# Altium footprint library analog-devices.PCBLIB: 79 footprints (part 1 of 6)
Each footprint in its own frame and in the unit in brackets; x right, y up, seen from the top. Pads: shape width x height; smd on the part's side, far side on the other; paste and mask are expansions set on the pad; w line width, h text height; cw(c..) or ccw(c..) is an arc to the next point about the centre after c.
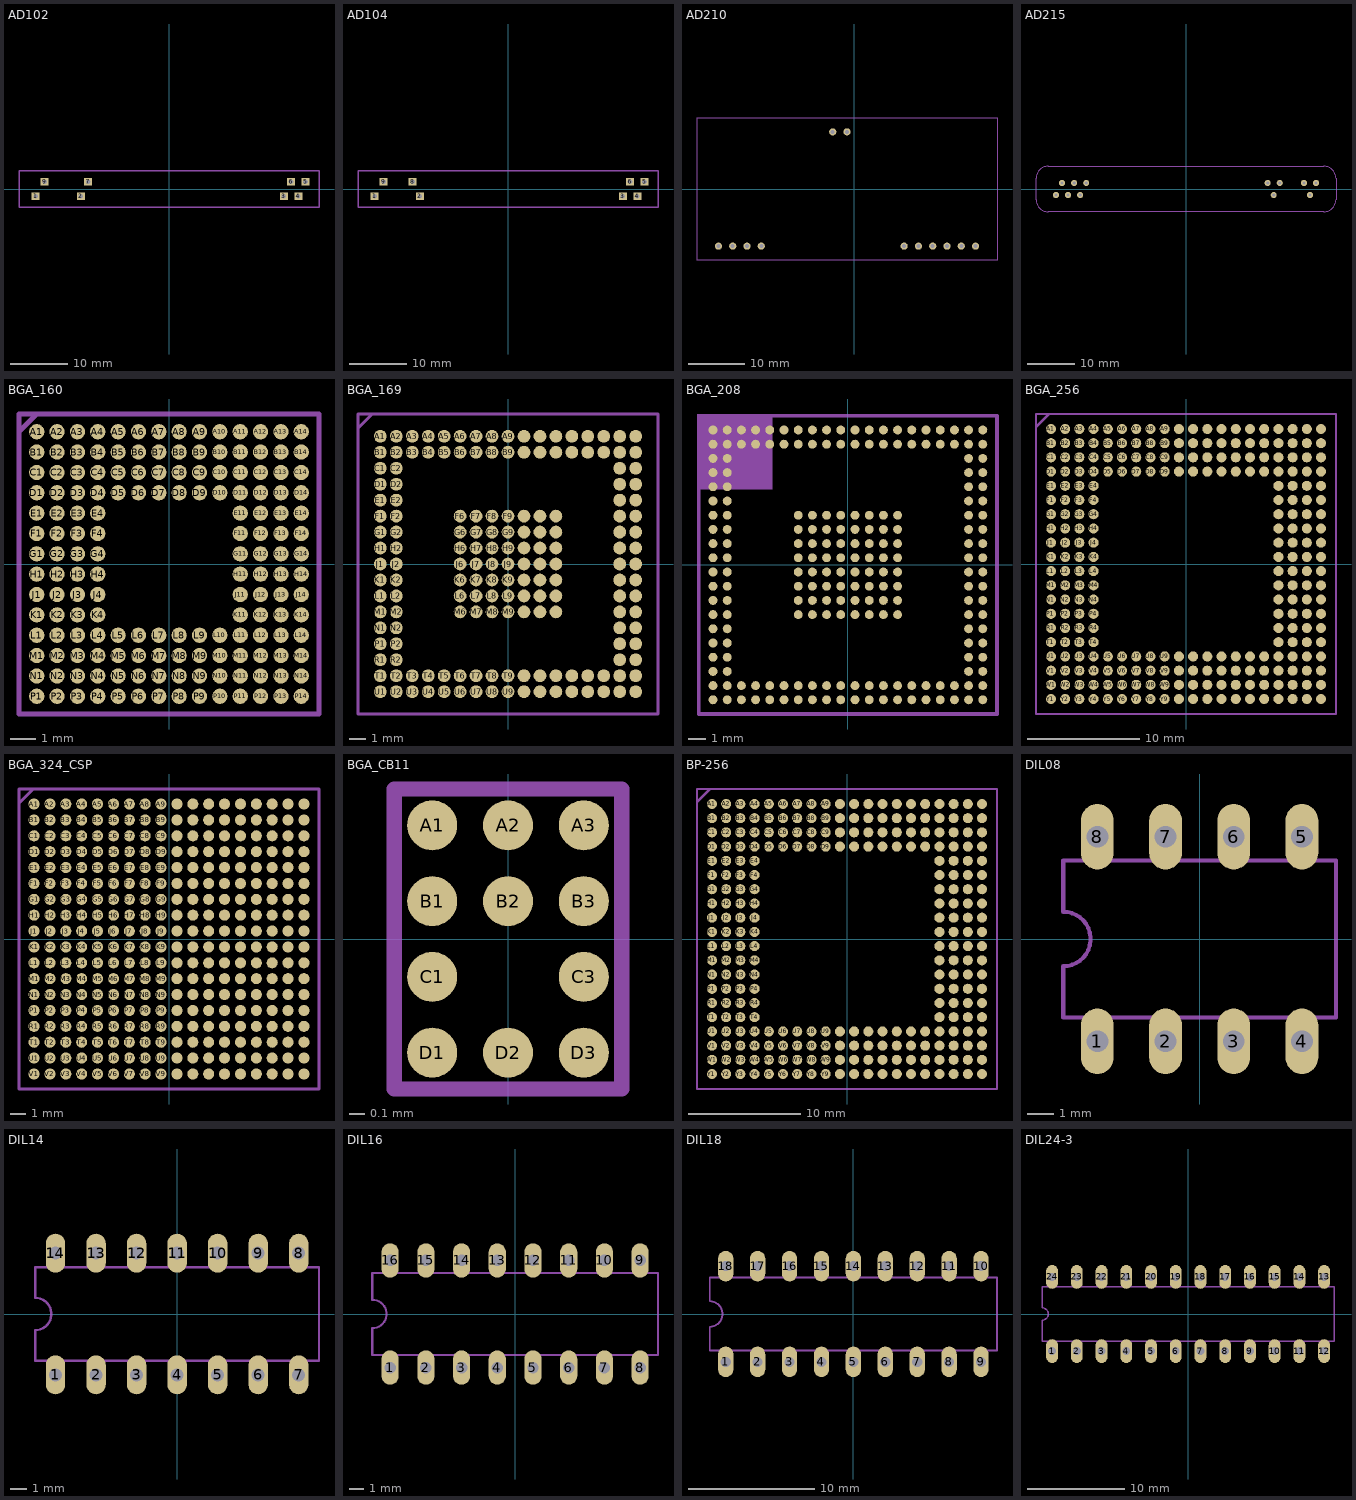
[diagram p0: the footprints below, top view; thin cyan lines are the x and y axes]

## AD102 [mil]
pads (8):
  rect 55x55 hole 32: 1(-920,-50) 2(-608,-50) 3(792,-50) 4(892,-50) 5(942,50) 6(842,50) 7(-558,50) 9(-858,50)
Mechanical 2:
  lines w10: -1035,-125 1035,-125 1035,125 -1035,125 -1035,-125

## AD104 [mil]
pads (8):
  rect 55x55 hole 32: 1(-920,-50) 2(-608,-50) 3(792,-50) 4(892,-50) 5(942,50) 6(842,50) 8(-658,50) 9(-858,50)
Mechanical 2:
  lines w10: -1035,-125 1035,-125 1035,125 -1035,125 -1035,-125

## AD210 [mm]
pads (12):
  round 1.27 hole 0.7: 1(-24.13,-10.16) 2(-21.59,-10.16) 3(-19.05,-10.16) 4(-16.51,-10.16) 14(8.89,-10.16) 15(11.43,-10.16) 16(13.97,-10.16) 17(16.51,-10.16) 18(19.05,-10.16) 19(21.59,-10.16) 29(-1.27,10.16) 30(-3.81,10.16)
Mechanical 2:
  lines w0.203: -27.94,-12.7 -27.94,12.7 25.4,12.7 25.4,-12.7 -27.94,-12.7

## AD215 [mm]
pads (12):
  round 1.27 hole 0.7: 1(-27.305,-1.27) 2(-26.035,1.27) 3(-24.765,-1.27) 4(-23.495,1.27) 5(-22.225,-1.27) 6(-20.955,1.27) 36(17.145,1.27) 37(18.415,-1.27) 38(19.685,1.27) 42(24.765,1.27) 43(26.035,-1.27) 44(27.305,1.27)
Mechanical 2:
  lines w0.203: -31.496,-2.222 ccw(c-28.956,-2.222) -28.956,-4.763 28.956,-4.763 ccw(c28.956,-2.222) 31.496,-2.223 31.496,2.222 ccw(c28.956,2.222) 28.956,4.763 -28.956,4.763 ccw(c-28.956,2.222) -31.496,2.223 -31.496,-2.222

## BGA_160 [mm]
pads (160):
  rrect100% 0.6x0.6 smd paste-0.3 mask-0.3: A1(-5.2,5.2) A2(-4.4,5.2) A3(-3.6,5.2) A4(-2.8,5.2) A5(-2,5.2) A6(-1.2,5.2) A7(-0.4,5.2) A8(0.4,5.2) A9(1.2,5.2) A10(2,5.2) A11(2.8,5.2) A12(3.6,5.2) A13(4.4,5.2) A14(5.2,5.2) B1(-5.2,4.4) B2(-4.4,4.4) B3(-3.6,4.4) B4(-2.8,4.4) B5(-2,4.4) B6(-1.2,4.4) B7(-0.4,4.4) B8(0.4,4.4) B9(1.2,4.4) B10(2,4.4) B11(2.8,4.4) B12(3.6,4.4) B13(4.4,4.4) B14(5.2,4.4) C1(-5.2,3.6) C2(-4.4,3.6) C3(-3.6,3.6) C4(-2.8,3.6) C5(-2,3.6) C6(-1.2,3.6) C7(-0.4,3.6) C8(0.4,3.6) C9(1.2,3.6) C10(2,3.6) C11(2.8,3.6) C12(3.6,3.6) C13(4.4,3.6) C14(5.2,3.6) D1(-5.2,2.8) D2(-4.4,2.8) D3(-3.6,2.8) D4(-2.8,2.8) D5(-2,2.8) D6(-1.2,2.8) D7(-0.4,2.8) D8(0.4,2.8) D9(1.2,2.8) D10(2,2.8) D11(2.8,2.8) D12(3.6,2.8) D13(4.4,2.8) D14(5.2,2.8) E1(-5.2,2) E2(-4.4,2) E3(-3.6,2) E4(-2.8,2) E11(2.8,2) E12(3.6,2) E13(4.4,2) E14(5.2,2) F1(-5.2,1.2) F2(-4.4,1.2) F3(-3.6,1.2) F4(-2.8,1.2) F11(2.8,1.2) F12(3.6,1.2) F13(4.4,1.2) F14(5.2,1.2) G1(-5.2,0.4) G2(-4.4,0.4) G3(-3.6,0.4) G4(-2.8,0.4) G11(2.8,0.4) G12(3.6,0.4) G13(4.4,0.4) G14(5.2,0.4) H1(-5.2,-0.4) H2(-4.4,-0.4) H3(-3.6,-0.4) H4(-2.8,-0.4) H11(2.8,-0.4) H12(3.6,-0.4) H13(4.4,-0.4) H14(5.2,-0.4) J1(-5.2,-1.2) J2(-4.4,-1.2) J3(-3.6,-1.2) J4(-2.8,-1.2) J11(2.8,-1.2) J12(3.6,-1.2) J13(4.4,-1.2) J14(5.2,-1.2) K1(-5.2,-2) K2(-4.4,-2) K3(-3.6,-2) K4(-2.8,-2) K11(2.8,-2) K12(3.6,-2) K13(4.4,-2) K14(5.2,-2) L1(-5.2,-2.8) L2(-4.4,-2.8) L3(-3.6,-2.8) L4(-2.8,-2.8) L5(-2,-2.8) L6(-1.2,-2.8) L7(-0.4,-2.8) L8(0.4,-2.8) L9(1.2,-2.8) L10(2,-2.8) L11(2.8,-2.8) L12(3.6,-2.8) L13(4.4,-2.8) L14(5.2,-2.8) M1(-5.2,-3.6) M2(-4.4,-3.6) M3(-3.6,-3.6) M4(-2.8,-3.6) M5(-2,-3.6) M6(-1.2,-3.6) M7(-0.4,-3.6) M8(0.4,-3.6) M9(1.2,-3.6) M10(2,-3.6) M11(2.8,-3.6) M12(3.6,-3.6) M13(4.4,-3.6) M14(5.2,-3.6) N1(-5.2,-4.4) N2(-4.4,-4.4) N3(-3.6,-4.4) N4(-2.8,-4.4) N5(-2,-4.4) N6(-1.2,-4.4) N7(-0.4,-4.4) N8(0.4,-4.4) N9(1.2,-4.4) N10(2,-4.4) N11(2.8,-4.4) N12(3.6,-4.4) N13(4.4,-4.4) N14(5.2,-4.4) P1(-5.2,-5.2) P2(-4.4,-5.2) P3(-3.6,-5.2) P4(-2.8,-5.2) P5(-2,-5.2) P6(-1.2,-5.2) P7(-0.4,-5.2) P8(0.4,-5.2) P9(1.2,-5.2) P10(2,-5.2) P11(2.8,-5.2) P12(3.6,-5.2) P13(4.4,-5.2) P14(5.2,-5.2)
Top Solder:
  drawing of 160 lines, arcs and shapes, not listed
Mechanical 2:
  lines w0.203: -5.898,5.2 -5.898,5.898 -5.2,5.898 ; -5.898,5.2 -5.898,-5.898 5.898,-5.898 5.898,5.898 -5.2,5.898 ; -5.898,5.2 -5.2,5.898

## BGA_169 [mil]
pads (169):
  rrect100% 31.5x31.5 smd paste-15.75 mask-15.75: A1(-314.96,314.96) A2(-275.59,314.96) A3(-236.22,314.96) A4(-196.85,314.96) A5(-157.48,314.96) A6(-118.11,314.96) A7(-78.74,314.96) A8(-39.37,314.96) A9(0,314.96) A10(39.37,314.96) A11(78.74,314.96) A12(118.11,314.96) A13(157.48,314.96) A14(196.85,314.96) A15(314.96,314.96) A16(275.59,314.96) A17(236.22,314.96) B1(-314.96,275.59) B2(-275.59,275.59) B3(-236.22,275.59) B4(-196.85,275.59) B5(-157.48,275.59) B6(-118.11,275.59) B7(-78.74,275.59) B8(-39.37,275.59) B9(0,275.59) B10(39.37,275.59) B11(78.74,275.59) B12(118.11,275.59) B13(157.48,275.59) B14(196.85,275.59) B15(314.96,275.59) B16(275.59,275.59) B17(236.22,275.59) C1(-314.96,236.22) C2(-275.59,236.22) C15(314.96,236.22) C16(275.59,236.22) D1(-314.96,196.85) D2(-275.59,196.85) D15(314.96,196.85) D16(275.59,196.85) E1(-314.96,157.48) E2(-275.59,157.48) E15(314.96,157.48) E16(275.59,157.48) F1(-314.96,118.11) F2(-275.59,118.11) F6(-118.11,118.11) F7(-78.74,118.11) F8(-39.37,118.11) F9(0,118.11) F10(39.37,118.11) F11(78.74,118.11) F12(118.11,118.11) F15(314.96,118.11) F16(275.59,118.11) G1(-314.96,78.74) G2(-275.59,78.74) G6(-118.11,78.74) G7(-78.74,78.74) G8(-39.37,78.74) G9(0,78.74) G10(39.37,78.74) G11(78.74,78.74) G12(118.11,78.74) G15(314.96,78.74) G16(275.59,78.74) H1(-314.96,39.37) H2(-275.59,39.37) H6(-118.11,39.37) H7(-78.74,39.37) H8(-39.37,39.37) H9(0,39.37) H10(39.37,39.37) H11(78.74,39.37) H12(118.11,39.37) H15(314.96,39.37) H16(275.59,39.37) J1(-314.96,0) J2(-275.59,0) J6(-118.11,0) J7(-78.74,0) J8(-39.37,0) J9(0,0) J10(39.37,0) J11(78.74,0) J12(118.11,0) J15(314.96,0) J16(275.59,0) K1(-314.96,-39.37) K2(-275.59,-39.37) K6(-118.11,-39.37) K7(-78.74,-39.37) K8(-39.37,-39.37) K9(0,-39.37) K10(39.37,-39.37) K11(78.74,-39.37) K12(118.11,-39.37) K15(314.96,-39.37) K16(275.59,-39.37) L1(-314.96,-78.74) L2(-275.59,-78.74) L6(-118.11,-78.74) L7(-78.74,-78.74) L8(-39.37,-78.74) L9(0,-78.74) L10(39.37,-78.74) L11(78.74,-78.74) L12(118.11,-78.74) L15(314.96,-78.74) L16(275.59,-78.74) M1(-314.96,-118.11) M2(-275.59,-118.11) M6(-118.11,-118.11) M7(-78.74,-118.11) M8(-39.37,-118.11) M9(0,-118.11) M10(39.37,-118.11) M11(78.74,-118.11) M12(118.11,-118.11) M15(314.96,-118.11) M16(275.59,-118.11) N1(-314.96,-157.48) N2(-275.59,-157.48) N15(314.96,-157.48) N16(275.59,-157.48) P1(-314.96,-196.85) P2(-275.59,-196.85) P15(314.96,-196.85) P16(275.59,-196.85) R1(-314.96,-236.22) R2(-275.59,-236.22) R16(275.59,-236.22) R17(314.96,-236.22) T1(-314.96,-275.59) T2(-275.59,-275.59) T3(-236.22,-275.59) T4(-196.85,-275.59) T5(-157.48,-275.59) T6(-118.11,-275.59) T7(-78.74,-275.59) T8(-39.37,-275.59) T9(0,-275.59) T10(39.37,-275.59) T11(78.74,-275.59) T12(118.11,-275.59) T13(157.48,-275.59) T14(196.85,-275.59) T15(236.22,-275.59) T16(275.59,-275.59) T17(314.96,-275.59) U1(-314.96,-314.96) U2(-275.59,-314.96) U3(-236.22,-314.96) U4(-196.85,-314.96) U5(-157.48,-314.96) U6(-118.11,-314.96) U7(-78.74,-314.96) U8(-39.37,-314.96) U9(0,-314.96) U10(39.37,-314.96) U11(78.74,-314.96) U12(118.11,-314.96) U13(157.48,-314.96) U14(196.85,-314.96) U15(236.22,-314.96) U16(275.59,-314.96) U17(314.96,-314.96)
Top Solder:
  drawing of 169 lines, arcs and shapes, not listed
Mechanical 2:
  lines w8: -370.02,334.65 -370.02,370.02 -334.65,370.02 ; -370.02,334.65 -370.02,-370.02 370.02,-370.02 370.02,370.02 -334.65,370.02 ; -370.02,334.65 -334.65,370.02

## BGA_208 [mm]
pads (208):
  rrect100% 0.5x0.5 smd paste-0.25 mask-0.25: A1(-7.6,7.6) A2(-6.8,7.6) A3(-6,7.6) A4(-5.2,7.6) A5(-4.4,7.6) A6(-3.6,7.6) A7(-2.8,7.6) A8(-2,7.6) A9(-1.2,7.6) A10(-0.4,7.6) A11(0.4,7.6) A12(1.2,7.6) A13(2,7.6) A14(2.8,7.6) A15(3.6,7.6) A16(4.4,7.6) A17(5.2,7.6) A18(6,7.6) A19(6.8,7.6) A20(7.6,7.6) B1(-7.6,6.8) B2(-6.8,6.8) B3(-6,6.8) B4(-5.2,6.8) B5(-4.4,6.8) B6(-3.6,6.8) B7(-2.8,6.8) B8(-2,6.8) B9(-1.2,6.8) B10(-0.4,6.8) B11(0.4,6.8) B12(1.2,6.8) B13(2,6.8) B14(2.8,6.8) B15(3.6,6.8) B16(4.4,6.8) B17(5.2,6.8) B18(6,6.8) B19(6.8,6.8) B20(7.6,6.8) C1(-7.6,6) C2(-6.8,6) C19(6.8,6) C20(7.6,6) D1(-7.6,5.2) D2(-6.8,5.2) D19(6.8,5.2) D20(7.6,5.2) E1(-7.6,4.4) E2(-6.8,4.4) E19(6.8,4.4) E20(7.6,4.4) F1(-7.6,3.6) F2(-6.8,3.6) F19(6.8,3.6) F20(7.6,3.6) G1(-7.6,2.8) G2(-6.8,2.8) G7(-2.8,2.8) G8(-2,2.8) G9(-1.2,2.8) G10(-0.4,2.8) G11(0.4,2.8) G12(1.2,2.8) G13(2,2.8) G14(2.8,2.8) G19(6.8,2.8) G20(7.6,2.8) H1(-7.6,2) H2(-6.8,2) H7(-2.8,2) H8(-2,2) H9(-1.2,2) H10(-0.4,2) H11(0.4,2) H12(1.2,2) H13(2,2) H14(2.8,2) H19(6.8,2) H20(7.6,2) J1(-7.6,1.2) J2(-6.8,1.2) J7(-2.8,1.2) J8(-2,1.2) J9(-1.2,1.2) J10(-0.4,1.2) J11(0.4,1.2) J12(1.2,1.2) J13(2,1.2) J14(2.8,1.2) J19(6.8,1.2) J20(7.6,1.2) K1(-7.6,0.4) K2(-6.8,0.4) K7(-2.8,0.4) K8(-2,0.4) K9(-1.2,0.4) K10(-0.4,0.4) K11(0.4,0.4) K12(1.2,0.4) K13(2,0.4) K14(2.8,0.4) K19(6.8,0.4) K20(7.6,0.4) L1(-7.6,-0.4) L2(-6.8,-0.4) L7(-2.8,-0.4) L8(-2,-0.4) L9(-1.2,-0.4) L10(-0.4,-0.4) L11(0.4,-0.4) L12(1.2,-0.4) L13(2,-0.4) L14(2.8,-0.4) L19(6.8,-0.4) L20(7.6,-0.4) M1(-7.6,-1.2) M2(-6.8,-1.2) M7(-2.8,-1.2) M8(-2,-1.2) M9(-1.2,-1.2) M10(-0.4,-1.2) M11(0.4,-1.2) M12(1.2,-1.2) M13(2,-1.2) M14(2.8,-1.2) M19(6.8,-1.2) M20(7.6,-1.2) N1(-7.6,-2) N2(-6.8,-2) N7(-2.8,-2) N8(-2,-2) N9(-1.2,-2) N10(-0.4,-2) N11(0.4,-2) N12(1.2,-2) N13(2,-2) N14(2.8,-2) N19(6.8,-2) N20(7.6,-2) P1(-7.6,-2.8) P2(-6.8,-2.8) P7(-2.8,-2.8) P8(-2,-2.8) P9(-1.2,-2.8) P10(-0.4,-2.8) P11(0.4,-2.8) P12(1.2,-2.8) P13(2,-2.8) P14(2.8,-2.8) P19(6.8,-2.8) P20(7.6,-2.8) R1(-7.6,-3.6) R2(-6.8,-3.6) R19(6.8,-3.6) R20(7.6,-3.6) T1(-7.6,-4.4) T2(-6.8,-4.4) T19(6.8,-4.4) T20(7.6,-4.4) U1(-7.6,-5.2) U2(-6.8,-5.2) U19(6.8,-5.2) U20(7.6,-5.2) V1(-7.6,-6) V2(-6.8,-6) V19(6.8,-6) V20(7.6,-6) W1(-7.6,-6.8) W2(-6.8,-6.8) W3(-6,-6.8) W4(-5.2,-6.8) W5(-4.4,-6.8) W6(-3.6,-6.8) W7(-2.8,-6.8) W8(-2,-6.8) W9(-1.2,-6.8) W10(-0.4,-6.8) W11(0.4,-6.8) W12(1.2,-6.8) W13(2,-6.8) W14(2.8,-6.8) W15(3.6,-6.8) W16(4.4,-6.8) W17(5.2,-6.8) W18(6,-6.8) W19(6.8,-6.8) W20(7.6,-6.8) X1(-7.6,-7.6) X2(-6.8,-7.6) X3(-6,-7.6) X4(-5.2,-7.6) X5(-4.4,-7.6) X6(-3.6,-7.6) X7(-2.8,-7.6) X8(-2,-7.6) X9(-1.2,-7.6) X10(-0.4,-7.6) X11(0.4,-7.6) X12(1.2,-7.6) X13(2,-7.6) X14(2.8,-7.6) X15(3.6,-7.6) X16(4.4,-7.6) X17(5.2,-7.6) X18(6,-7.6) X19(6.8,-7.6) X20(7.6,-7.6)
Top Solder:
  drawing of 208 lines, arcs and shapes, not listed
Mechanical 2:
  lines w0.203: -8.399,7.7 -8.399,8.399 -7.7,8.399 ; -8.399,7.7 -8.399,-8.399 8.399,-8.399 8.399,8.399 -7.7,8.399 ; -8.399,7.7 -7.7,8.399
Mechanical 18:
  rectangle: -8.5,4.25 -4.25,8.5

## BGA_256 [mm]
pads (256):
  rrect100% 0.9x0.9 smd paste-0.45 mask-0.45: A1(-12.065,12.065) A2(-10.795,12.065) A3(-9.525,12.065) A4(-8.255,12.065) A5(-6.985,12.065) A6(-5.715,12.065) A7(-4.445,12.065) A8(-3.175,12.065) A9(-1.905,12.065) A10(-0.635,12.065) A11(0.635,12.065) A12(1.905,12.065) A13(3.175,12.065) A14(4.445,12.065) A15(5.715,12.065) A16(6.985,12.065) A17(8.255,12.065) A18(9.525,12.065) A19(10.795,12.065) A20(12.065,12.065) B1(-12.065,10.795) B2(-10.795,10.795) B3(-9.525,10.795) B4(-8.255,10.795) B5(-6.985,10.795) B6(-5.715,10.795) B7(-4.445,10.795) B8(-3.175,10.795) B9(-1.905,10.795) B10(-0.635,10.795) B11(0.635,10.795) B12(1.905,10.795) B13(3.175,10.795) B14(4.445,10.795) B15(5.715,10.795) B16(6.985,10.795) B17(8.255,10.795) B18(9.525,10.795) B19(10.795,10.795) B20(12.065,10.795) C1(-12.065,9.525) C2(-10.795,9.525) C3(-9.525,9.525) C4(-8.255,9.525) C5(-6.985,9.525) C6(-5.715,9.525) C7(-4.445,9.525) C8(-3.175,9.525) C9(-1.905,9.525) C10(-0.635,9.525) C11(0.635,9.525) C12(1.905,9.525) C13(3.175,9.525) C14(4.445,9.525) C15(5.715,9.525) C16(6.985,9.525) C17(8.255,9.525) C18(9.525,9.525) C19(10.795,9.525) C20(12.065,9.525) D1(-12.065,8.255) D2(-10.795,8.255) D3(-9.525,8.255) D4(-8.255,8.255) D5(-6.985,8.255) D6(-5.715,8.255) D7(-4.445,8.255) D8(-3.175,8.255) D9(-1.905,8.255) D10(-0.635,8.255) D11(0.635,8.255) D12(1.905,8.255) D13(3.175,8.255) D14(4.445,8.255) D15(5.715,8.255) D16(6.985,8.255) D17(8.255,8.255) D18(9.525,8.255) D19(10.795,8.255) D20(12.065,8.255) E1(-12.065,6.985) E2(-10.795,6.985) E3(-9.525,6.985) E4(-8.255,6.985) E17(8.255,6.985) E18(9.525,6.985) E19(10.795,6.985) E20(12.065,6.985) F1(-12.065,5.715) F2(-10.795,5.715) F3(-9.525,5.715) F4(-8.255,5.715) F17(8.255,5.715) F18(9.525,5.715) F19(10.795,5.715) F20(12.065,5.715) G1(-12.065,4.445) G2(-10.795,4.445) G3(-9.525,4.445) G4(-8.255,4.445) G17(8.255,4.445) G18(9.525,4.445) G19(10.795,4.445) G20(12.065,4.445) H1(-12.065,3.175) H2(-10.795,3.175) H3(-9.525,3.175) H4(-8.255,3.175) H17(8.255,3.175) H18(9.525,3.175) H19(10.795,3.175) H20(12.065,3.175) J1(-12.065,1.905) J2(-10.795,1.905) J3(-9.525,1.905) J4(-8.255,1.905) J17(8.255,1.905) J18(9.525,1.905) J19(10.795,1.905) J20(12.065,1.905) K1(-12.065,0.635) K2(-10.795,0.635) K3(-9.525,0.635) K4(-8.255,0.635) K17(8.255,0.635) K18(9.525,0.635) K19(10.795,0.635) K20(12.065,0.635) L1(-12.065,-0.635) L2(-10.795,-0.635) L3(-9.525,-0.635) L4(-8.255,-0.635) L17(8.255,-0.635) L18(9.525,-0.635) L19(10.795,-0.635) L20(12.065,-0.635) M1(-12.065,-1.905) M2(-10.795,-1.905) M3(-9.525,-1.905) M4(-8.255,-1.905) M17(8.255,-1.905) M18(9.525,-1.905) M19(10.795,-1.905) M20(12.065,-1.905) N1(-12.065,-3.175) N2(-10.795,-3.175) N3(-9.525,-3.175) N4(-8.255,-3.175) N17(8.255,-3.175) N18(9.525,-3.175) N19(10.795,-3.175) N20(12.065,-3.175) P1(-12.065,-4.445) P2(-10.795,-4.445) P3(-9.525,-4.445) P4(-8.255,-4.445) P17(8.255,-4.445) P18(9.525,-4.445) P19(10.795,-4.445) P20(12.065,-4.445) R1(-12.065,-5.715) R2(-10.795,-5.715) R3(-9.525,-5.715) R4(-8.255,-5.715) R17(8.255,-5.715) R18(9.525,-5.715) R19(10.795,-5.715) R20(12.065,-5.715) T1(-12.065,-6.985) T2(-10.795,-6.985) T3(-9.525,-6.985) T4(-8.255,-6.985) T17(8.255,-6.985) T18(9.525,-6.985) T19(10.795,-6.985) T20(12.065,-6.985) U1(-12.065,-8.255) U2(-10.795,-8.255) U3(-9.525,-8.255) U4(-8.255,-8.255) U5(-6.985,-8.255) U6(-5.715,-8.255) U7(-4.445,-8.255) U8(-3.175,-8.255) U9(-1.905,-8.255) U10(-0.635,-8.255) U11(0.635,-8.255) U12(1.905,-8.255) U13(3.175,-8.255) U14(4.445,-8.255) U15(5.715,-8.255) U16(6.985,-8.255) U17(8.255,-8.255) U18(9.525,-8.255) U19(10.795,-8.255) U20(12.065,-8.255) V1(-12.065,-9.525) V2(-10.795,-9.525) V3(-9.525,-9.525) V4(-8.255,-9.525) V5(-6.985,-9.525) V6(-5.715,-9.525) V7(-4.445,-9.525) V8(-3.175,-9.525) V9(-1.905,-9.525) V10(-0.635,-9.525) V11(0.635,-9.525) V12(1.905,-9.525) V13(3.175,-9.525) V14(4.445,-9.525) V15(5.715,-9.525) V16(6.985,-9.525) V17(8.255,-9.525) V18(9.525,-9.525) V19(10.795,-9.525) V20(12.065,-9.525) W1(-12.065,-10.795) W2(-10.795,-10.795) W3(-9.525,-10.795) W4(-8.255,-10.795) W5(-6.985,-10.795) W6(-5.715,-10.795) W7(-4.445,-10.795) W8(-3.175,-10.795) W9(-1.905,-10.795) W10(-0.635,-10.795) W11(0.635,-10.795) W12(1.905,-10.795) W13(3.175,-10.795) W14(4.445,-10.795) W15(5.715,-10.795) W16(6.985,-10.795) W17(8.255,-10.795) W18(9.525,-10.795) W19(10.795,-10.795) W20(12.065,-10.795) Y1(-12.065,-12.065) Y2(-10.795,-12.065) Y3(-9.525,-12.065) Y4(-8.255,-12.065) Y5(-6.985,-12.065) Y6(-5.715,-12.065) Y7(-4.445,-12.065) Y8(-3.175,-12.065) Y9(-1.905,-12.065) Y10(-0.635,-12.065) Y11(0.635,-12.065) Y12(1.905,-12.065) Y13(3.175,-12.065) Y14(4.445,-12.065) Y15(5.715,-12.065) Y16(6.985,-12.065) Y17(8.255,-12.065) Y18(9.525,-12.065) Y19(10.795,-12.065) Y20(12.065,-12.065)
Top Solder:
  drawing of 256 lines, arcs and shapes, not listed
Mechanical 2:
  lines w0.203: -13.399,12.23 -13.399,13.399 -12.23,13.399 ; -13.399,12.23 -13.399,-13.399 13.399,-13.399 13.399,13.399 -12.23,13.399 ; -13.399,12.23 -12.23,13.399

## BGA_324_CSP [mm]
pads (324):
  rrect100% 0.7x0.7 smd paste-0.35 mask-0.35: A1(-8.5,8.5) A2(-7.5,8.5) A3(-6.5,8.5) A4(-5.5,8.5) A5(-4.5,8.5) A6(-3.5,8.5) A7(-2.5,8.5) A8(-1.5,8.5) A9(-0.5,8.5) A10(0.5,8.5) A11(1.5,8.5) A12(2.5,8.5) A13(3.5,8.5) A14(4.5,8.5) A15(5.5,8.5) A16(6.5,8.5) A17(7.5,8.5) A18(8.5,8.5) B1(-8.5,7.5) B2(-7.5,7.5) B3(-6.5,7.5) B4(-5.5,7.5) B5(-4.5,7.5) B6(-3.5,7.5) B7(-2.5,7.5) B8(-1.5,7.5) B9(-0.5,7.5) B10(0.5,7.5) B11(1.5,7.5) B12(2.5,7.5) B13(3.5,7.5) B14(4.5,7.5) B15(5.5,7.5) B16(6.5,7.5) B17(7.5,7.5) B18(8.5,7.5) C1(-8.5,6.5) C2(-7.5,6.5) C3(-6.5,6.5) C4(-5.5,6.5) C5(-4.5,6.5) C6(-3.5,6.5) C7(-2.5,6.5) C8(-1.5,6.5) C9(-0.5,6.5) C10(0.5,6.5) C11(1.5,6.5) C12(2.5,6.5) C13(3.5,6.5) C14(4.5,6.5) C15(5.5,6.5) C16(6.5,6.5) C17(7.5,6.5) C18(8.5,6.5) D1(-8.5,5.5) D2(-7.5,5.5) D3(-6.5,5.5) D4(-5.5,5.5) D5(-4.5,5.5) D6(-3.5,5.5) D7(-2.5,5.5) D8(-1.5,5.5) D9(-0.5,5.5) D10(0.5,5.5) D11(1.5,5.5) D12(2.5,5.5) D13(3.5,5.5) D14(4.5,5.5) D15(5.5,5.5) D16(6.5,5.5) D17(7.5,5.5) D18(8.5,5.5) E1(-8.5,4.5) E2(-7.5,4.5) E3(-6.5,4.5) E4(-5.5,4.5) E5(-4.5,4.5) E6(-3.5,4.5) E7(-2.5,4.5) E8(-1.5,4.5) E9(-0.5,4.5) E10(0.5,4.5) E11(1.5,4.5) E12(2.5,4.5) E13(3.5,4.5) E14(4.5,4.5) E15(5.5,4.5) E16(6.5,4.5) E17(7.5,4.5) E18(8.5,4.5) F1(-8.5,3.5) F2(-7.5,3.5) F3(-6.5,3.5) F4(-5.5,3.5) F5(-4.5,3.5) F6(-3.5,3.5) F7(-2.5,3.5) F8(-1.5,3.5) F9(-0.5,3.5) F10(0.5,3.5) F11(1.5,3.5) F12(2.5,3.5) F13(3.5,3.5) F14(4.5,3.5) F15(5.5,3.5) F16(6.5,3.5) F17(7.5,3.5) F18(8.5,3.5) G1(-8.5,2.5) G2(-7.5,2.5) G3(-6.5,2.5) G4(-5.5,2.5) G5(-4.5,2.5) G6(-3.5,2.5) G7(-2.5,2.5) G8(-1.5,2.5) G9(-0.5,2.5) G10(0.5,2.5) G11(1.5,2.5) G12(2.5,2.5) G13(3.5,2.5) G14(4.5,2.5) G15(5.5,2.5) G16(6.5,2.5) G17(7.5,2.5) G18(8.5,2.5) H1(-8.5,1.5) H2(-7.5,1.5) H3(-6.5,1.5) H4(-5.5,1.5) H5(-4.5,1.5) H6(-3.5,1.5) H7(-2.5,1.5) H8(-1.5,1.5) H9(-0.5,1.5) H10(0.5,1.5) H11(1.5,1.5) H12(2.5,1.5) H13(3.5,1.5) H14(4.5,1.5) H15(5.5,1.5) H16(6.5,1.5) H17(7.5,1.5) H18(8.5,1.5) J1(-8.5,0.5) J2(-7.5,0.5) J3(-6.5,0.5) J4(-5.5,0.5) J5(-4.5,0.5) J6(-3.5,0.5) J7(-2.5,0.5) J8(-1.5,0.5) J9(-0.5,0.5) J10(0.5,0.5) J11(1.5,0.5) J12(2.5,0.5) J13(3.5,0.5) J14(4.5,0.5) J15(5.5,0.5) J16(6.5,0.5) J17(7.5,0.5) J18(8.5,0.5) K1(-8.5,-0.5) K2(-7.5,-0.5) K3(-6.5,-0.5) K4(-5.5,-0.5) K5(-4.5,-0.5) K6(-3.5,-0.5) K7(-2.5,-0.5) K8(-1.5,-0.5) K9(-0.5,-0.5) K10(0.5,-0.5) K11(1.5,-0.5) K12(2.5,-0.5) K13(3.5,-0.5) K14(4.5,-0.5) K15(5.5,-0.5) K16(6.5,-0.5) K17(7.5,-0.5) K18(8.5,-0.5) L1(-8.5,-1.5) L2(-7.5,-1.5) L3(-6.5,-1.5) L4(-5.5,-1.5) L5(-4.5,-1.5) L6(-3.5,-1.5) L7(-2.5,-1.5) L8(-1.5,-1.5) L9(-0.5,-1.5) L10(0.5,-1.5) L11(1.5,-1.5) L12(2.5,-1.5) L13(3.5,-1.5) L14(4.5,-1.5) L15(5.5,-1.5) L16(6.5,-1.5) L17(7.5,-1.5) L18(8.5,-1.5) M1(-8.5,-2.5) M2(-7.5,-2.5) M3(-6.5,-2.5) M4(-5.5,-2.5) M5(-4.5,-2.5) M6(-3.5,-2.5) M7(-2.5,-2.5) M8(-1.5,-2.5) M9(-0.5,-2.5) M10(0.5,-2.5) M11(1.5,-2.5) M12(2.5,-2.5) M13(3.5,-2.5) M14(4.5,-2.5) M15(5.5,-2.5) M16(6.5,-2.5) M17(7.5,-2.5) M18(8.5,-2.5) N1(-8.5,-3.5) N2(-7.5,-3.5) N3(-6.5,-3.5) N4(-5.5,-3.5) N5(-4.5,-3.5) N6(-3.5,-3.5) N7(-2.5,-3.5) N8(-1.5,-3.5) N9(-0.5,-3.5) N10(0.5,-3.5) N11(1.5,-3.5) N12(2.5,-3.5) N13(3.5,-3.5) N14(4.5,-3.5) N15(5.5,-3.5) N16(6.5,-3.5) N17(7.5,-3.5) N18(8.5,-3.5) P1(-8.5,-4.5) P2(-7.5,-4.5) P3(-6.5,-4.5) P4(-5.5,-4.5) P5(-4.5,-4.5) P6(-3.5,-4.5) P7(-2.5,-4.5) P8(-1.5,-4.5) P9(-0.5,-4.5) P10(0.5,-4.5) P11(1.5,-4.5) P12(2.5,-4.5) P13(3.5,-4.5) P14(4.5,-4.5) P15(5.5,-4.5) P16(6.5,-4.5) P17(7.5,-4.5) P18(8.5,-4.5) R1(-8.5,-5.5) R2(-7.5,-5.5) R3(-6.5,-5.5) R4(-5.5,-5.5) R5(-4.5,-5.5) R6(-3.5,-5.5) R7(-2.5,-5.5) R8(-1.5,-5.5) R9(-0.5,-5.5) R10(0.5,-5.5) R11(1.5,-5.5) R12(2.5,-5.5) R13(3.5,-5.5) R14(4.5,-5.5) R15(5.5,-5.5) R16(6.5,-5.5) R17(7.5,-5.5) R18(8.5,-5.5) T1(-8.5,-6.5) T2(-7.5,-6.5) T3(-6.5,-6.5) T4(-5.5,-6.5) T5(-4.5,-6.5) T6(-3.5,-6.5) T7(-2.5,-6.5) T8(-1.5,-6.5) T9(-0.5,-6.5) T10(0.5,-6.5) T11(1.5,-6.5) T12(2.5,-6.5) T13(3.5,-6.5) T14(4.5,-6.5) T15(5.5,-6.5) T16(6.5,-6.5) T17(7.5,-6.5) T18(8.5,-6.5) U1(-8.5,-7.5) U2(-7.5,-7.5) U3(-6.5,-7.5) U4(-5.5,-7.5) U5(-4.5,-7.5) U6(-3.5,-7.5) U7(-2.5,-7.5) U8(-1.5,-7.5) U9(-0.5,-7.5) U10(0.5,-7.5) U11(1.5,-7.5) U12(2.5,-7.5) U13(3.5,-7.5) U14(4.5,-7.5) U15(5.5,-7.5) U16(6.5,-7.5) U17(7.5,-7.5) U18(8.5,-7.5) V1(-8.5,-8.5) V2(-7.5,-8.5) V3(-6.5,-8.5) V4(-5.5,-8.5) V5(-4.5,-8.5) V6(-3.5,-8.5) V7(-2.5,-8.5) V8(-1.5,-8.5) V9(-0.5,-8.5) V10(0.5,-8.5) V11(1.5,-8.5) V12(2.5,-8.5) V13(3.5,-8.5) V14(4.5,-8.5) V15(5.5,-8.5) V16(6.5,-8.5) V17(7.5,-8.5) V18(8.5,-8.5)
Top Solder:
  drawing of 324 lines, arcs and shapes, not listed
Mechanical 2:
  lines w0.203: -9.448,8.55 -9.448,9.448 -8.55,9.448 ; -9.448,8.55 -9.448,-9.448 9.448,-9.448 9.448,9.448 -8.55,9.448 ; -9.448,8.55 -8.55,9.448

## BGA_CB11 [mm]
pads (11):
  rrect100% 0.33x0.33 smd paste-0.165 mask-0.165: A1(-0.5,0.75) A2(0,0.75) A3(0.5,0.75) B1(-0.5,0.25) B2(0,0.25) B3(0.5,0.25) C1(-0.5,-0.25) C3(0.5,-0.25) D1(-0.5,-0.75) D2(0,-0.75) D3(0.5,-0.75)
Top Solder:
  circle w0: c-0.5,0.75 r0.15
  circle w0: c0,0.75 r0.15
  circle w0: c0.5,0.75 r0.15
  circle w0: c-0.5,0.25 r0.15
  circle w0: c0,0.25 r0.15
  circle w0: c0.5,0.25 r0.15
  circle w0: c-0.5,-0.25 r0.15
  circle w0: c0.5,-0.25 r0.15
  circle w0: c-0.5,-0.75 r0.15
  circle w0: c0,-0.75 r0.15
  circle w0: c0.5,-0.75 r0.15
Mechanical 2:
  lines w0.102: -0.75,-0.99 0.75,-0.99 0.75,0.99 -0.75,0.99 -0.75,-0.99
Mechanical 18:
  circle w0: c-0.508,0.762 r0.098

## BP-256 [mm]
pads (256):
  rrect100% 0.9x0.9 smd paste-0.45 mask-0.45: A1(-12.065,12.065) A2(-10.795,12.065) A3(-9.525,12.065) A4(-8.255,12.065) A5(-6.985,12.065) A6(-5.715,12.065) A7(-4.445,12.065) A8(-3.175,12.065) A9(-1.905,12.065) A10(-0.635,12.065) A11(0.635,12.065) A12(1.905,12.065) A13(3.175,12.065) A14(4.445,12.065) A15(5.715,12.065) A16(6.985,12.065) A17(8.255,12.065) A18(9.525,12.065) A19(10.795,12.065) A20(12.065,12.065) B1(-12.065,10.795) B2(-10.795,10.795) B3(-9.525,10.795) B4(-8.255,10.795) B5(-6.985,10.795) B6(-5.715,10.795) B7(-4.445,10.795) B8(-3.175,10.795) B9(-1.905,10.795) B10(-0.635,10.795) B11(0.635,10.795) B12(1.905,10.795) B13(3.175,10.795) B14(4.445,10.795) B15(5.715,10.795) B16(6.985,10.795) B17(8.255,10.795) B18(9.525,10.795) B19(10.795,10.795) B20(12.065,10.795) C1(-12.065,9.525) C2(-10.795,9.525) C3(-9.525,9.525) C4(-8.255,9.525) C5(-6.985,9.525) C6(-5.715,9.525) C7(-4.445,9.525) C8(-3.175,9.525) C9(-1.905,9.525) C10(-0.635,9.525) C11(0.635,9.525) C12(1.905,9.525) C13(3.175,9.525) C14(4.445,9.525) C15(5.715,9.525) C16(6.985,9.525) C17(8.255,9.525) C18(9.525,9.525) C19(10.795,9.525) C20(12.065,9.525) D1(-12.065,8.255) D2(-10.795,8.255) D3(-9.525,8.255) D4(-8.255,8.255) D5(-6.985,8.255) D6(-5.715,8.255) D7(-4.445,8.255) D8(-3.175,8.255) D9(-1.905,8.255) D10(-0.635,8.255) D11(0.635,8.255) D12(1.905,8.255) D13(3.175,8.255) D14(4.445,8.255) D15(5.715,8.255) D16(6.985,8.255) D17(8.255,8.255) D18(9.525,8.255) D19(10.795,8.255) D20(12.065,8.255) E1(-12.065,6.985) E2(-10.795,6.985) E3(-9.525,6.985) E4(-8.255,6.985) E17(8.255,6.985) E18(9.525,6.985) E19(10.795,6.985) E20(12.065,6.985) F1(-12.065,5.715) F2(-10.795,5.715) F3(-9.525,5.715) F4(-8.255,5.715) F17(8.255,5.715) F18(9.525,5.715) F19(10.795,5.715) F20(12.065,5.715) G1(-12.065,4.445) G2(-10.795,4.445) G3(-9.525,4.445) G4(-8.255,4.445) G17(8.255,4.445) G18(9.525,4.445) G19(10.795,4.445) G20(12.065,4.445) H1(-12.065,3.175) H2(-10.795,3.175) H3(-9.525,3.175) H4(-8.255,3.175) H17(8.255,3.175) H18(9.525,3.175) H19(10.795,3.175) H20(12.065,3.175) J1(-12.065,1.905) J2(-10.795,1.905) J3(-9.525,1.905) J4(-8.255,1.905) J17(8.255,1.905) J18(9.525,1.905) J19(10.795,1.905) J20(12.065,1.905) K1(-12.065,0.635) K2(-10.795,0.635) K3(-9.525,0.635) K4(-8.255,0.635) K17(8.255,0.635) K18(9.525,0.635) K19(10.795,0.635) K20(12.065,0.635) L1(-12.065,-0.635) L2(-10.795,-0.635) L3(-9.525,-0.635) L4(-8.255,-0.635) L17(8.255,-0.635) L18(9.525,-0.635) L19(10.795,-0.635) L20(12.065,-0.635) M1(-12.065,-1.905) M2(-10.795,-1.905) M3(-9.525,-1.905) M4(-8.255,-1.905) M17(8.255,-1.905) M18(9.525,-1.905) M19(10.795,-1.905) M20(12.065,-1.905) N1(-12.065,-3.175) N2(-10.795,-3.175) N3(-9.525,-3.175) N4(-8.255,-3.175) N17(8.255,-3.175) N18(9.525,-3.175) N19(10.795,-3.175) N20(12.065,-3.175) P1(-12.065,-4.445) P2(-10.795,-4.445) P3(-9.525,-4.445) P4(-8.255,-4.445) P17(8.255,-4.445) P18(9.525,-4.445) P19(10.795,-4.445) P20(12.065,-4.445) R1(-12.065,-5.715) R2(-10.795,-5.715) R3(-9.525,-5.715) R4(-8.255,-5.715) R17(8.255,-5.715) R18(9.525,-5.715) R19(10.795,-5.715) R20(12.065,-5.715) T1(-12.065,-6.985) T2(-10.795,-6.985) T3(-9.525,-6.985) T4(-8.255,-6.985) T17(8.255,-6.985) T18(9.525,-6.985) T19(10.795,-6.985) T20(12.065,-6.985) U1(-12.065,-8.255) U2(-10.795,-8.255) U3(-9.525,-8.255) U4(-8.255,-8.255) U5(-6.985,-8.255) U6(-5.715,-8.255) U7(-4.445,-8.255) U8(-3.175,-8.255) U9(-1.905,-8.255) U10(-0.635,-8.255) U11(0.635,-8.255) U12(1.905,-8.255) U13(3.175,-8.255) U14(4.445,-8.255) U15(5.715,-8.255) U16(6.985,-8.255) U17(8.255,-8.255) U18(9.525,-8.255) U19(10.795,-8.255) U20(12.065,-8.255) V1(-12.065,-9.525) V2(-10.795,-9.525) V3(-9.525,-9.525) V4(-8.255,-9.525) V5(-6.985,-9.525) V6(-5.715,-9.525) V7(-4.445,-9.525) V8(-3.175,-9.525) V9(-1.905,-9.525) V10(-0.635,-9.525) V11(0.635,-9.525) V12(1.905,-9.525) V13(3.175,-9.525) V14(4.445,-9.525) V15(5.715,-9.525) V16(6.985,-9.525) V17(8.255,-9.525) V18(9.525,-9.525) V19(10.795,-9.525) V20(12.065,-9.525) W1(-12.065,-10.795) W2(-10.795,-10.795) W3(-9.525,-10.795) W4(-8.255,-10.795) W5(-6.985,-10.795) W6(-5.715,-10.795) W7(-4.445,-10.795) W8(-3.175,-10.795) W9(-1.905,-10.795) W10(-0.635,-10.795) W11(0.635,-10.795) W12(1.905,-10.795) W13(3.175,-10.795) W14(4.445,-10.795) W15(5.715,-10.795) W16(6.985,-10.795) W17(8.255,-10.795) W18(9.525,-10.795) W19(10.795,-10.795) W20(12.065,-10.795) Y1(-12.065,-12.065) Y2(-10.795,-12.065) Y3(-9.525,-12.065) Y4(-8.255,-12.065) Y5(-6.985,-12.065) Y6(-5.715,-12.065) Y7(-4.445,-12.065) Y8(-3.175,-12.065) Y9(-1.905,-12.065) Y10(-0.635,-12.065) Y11(0.635,-12.065) Y12(1.905,-12.065) Y13(3.175,-12.065) Y14(4.445,-12.065) Y15(5.715,-12.065) Y16(6.985,-12.065) Y17(8.255,-12.065) Y18(9.525,-12.065) Y19(10.795,-12.065) Y20(12.065,-12.065)
Top Solder:
  drawing of 256 lines, arcs and shapes, not listed
Mechanical 2:
  lines w0.203: -13.399,12.23 -13.399,13.399 -12.23,13.399 ; -13.399,12.23 -13.399,-13.399 13.399,-13.399 13.399,13.399 -12.23,13.399 ; -13.399,12.23 -12.23,13.399

## DIL08 [mil]
pads (8):
  oval 48x96 hole 32: 1(-150,-150) 2(-50,-150) 3(50,-150) 4(150,-150) 5(150,150) 6(50,150) 7(-50,150) 8(-150,150)
Mechanical 2:
  lines w6: -200,-115 200,-115 200,115 -200,115 -200,40 cw(c-200,0) -200,-40 -200,-115

## DIL14 [mil]
pads (14):
  oval 48x96 hole 32: 1(-300,-150) 2(-200,-150) 3(-100,-150) 4(0,-150) 5(100,-150) 6(200,-150) 7(300,-150) 8(300,150) 9(200,150) 10(100,150) 11(0,150) 12(-100,150) 13(-200,150) 14(-300,150)
Mechanical 2:
  lines w6: -350,-115 350,-115 350,115 -350,115 -350,40 cw(c-350,0) -350,-40 -350,-115

## DIL16 [mil]
pads (16):
  oval 48x96 hole 32: 1(-350,-150) 2(-250,-150) 3(-150,-150) 4(-50,-150) 5(50,-150) 6(150,-150) 7(250,-150) 8(350,-150) 9(350,150) 10(250,150) 11(150,150) 12(50,150) 13(-50,150) 14(-150,150) 15(-250,150) 16(-350,150)
Mechanical 2:
  lines w6: -400,-115 400,-115 400,115 -400,115 -400,40 cw(c-400,0) -400,-40 -400,-115

## DIL18 [mil]
pads (18):
  oval 48x96 hole 32: 1(-400,-150) 2(-300,-150) 3(-200,-150) 4(-100,-150) 5(0,-150) 6(100,-150) 7(200,-150) 8(300,-150) 9(400,-150) 10(400,150) 11(300,150) 12(200,150) 13(100,150) 14(0,150) 15(-100,150) 16(-200,150) 17(-300,150) 18(-400,150)
Mechanical 2:
  lines w6: -450,-115 450,-115 450,115 -450,115 -450,40 cw(c-450,0) -450,-40 -450,-115

## DIL24-3 [mil]
pads (24):
  oval 48x96 hole 32: 1(-550,-150) 2(-450,-150) 3(-350,-150) 4(-250,-150) 5(-150,-150) 6(-50,-150) 7(50,-150) 8(150,-150) 9(250,-150) 10(350,-150) 11(450,-150) 12(550,-150) 13(550,150) 14(450,150) 15(350,150) 16(250,150) 17(150,150) 18(50,150) 19(-50,150) 20(-150,150) 21(-250,150) 22(-350,150) 23(-450,150) 24(-550,150)
Mechanical 2:
  lines w6: -590,-110 -590,-25 ccw(c-590,0) -590,25 -590,110 590,110 590,-110 -590,-110